# Altium footprint library Pcblib_20110825.Pcblib: 407 footprints (part 18 of 26)
Each footprint in its own frame and in the unit in brackets; x right, y up, seen from the top. Pads: shape width x height; smd on the part's side, far side on the other; paste and mask are expansions set on the pad; w line width, h text height; cw(c..) or ccw(c..) is an arc to the next point about the centre after c.
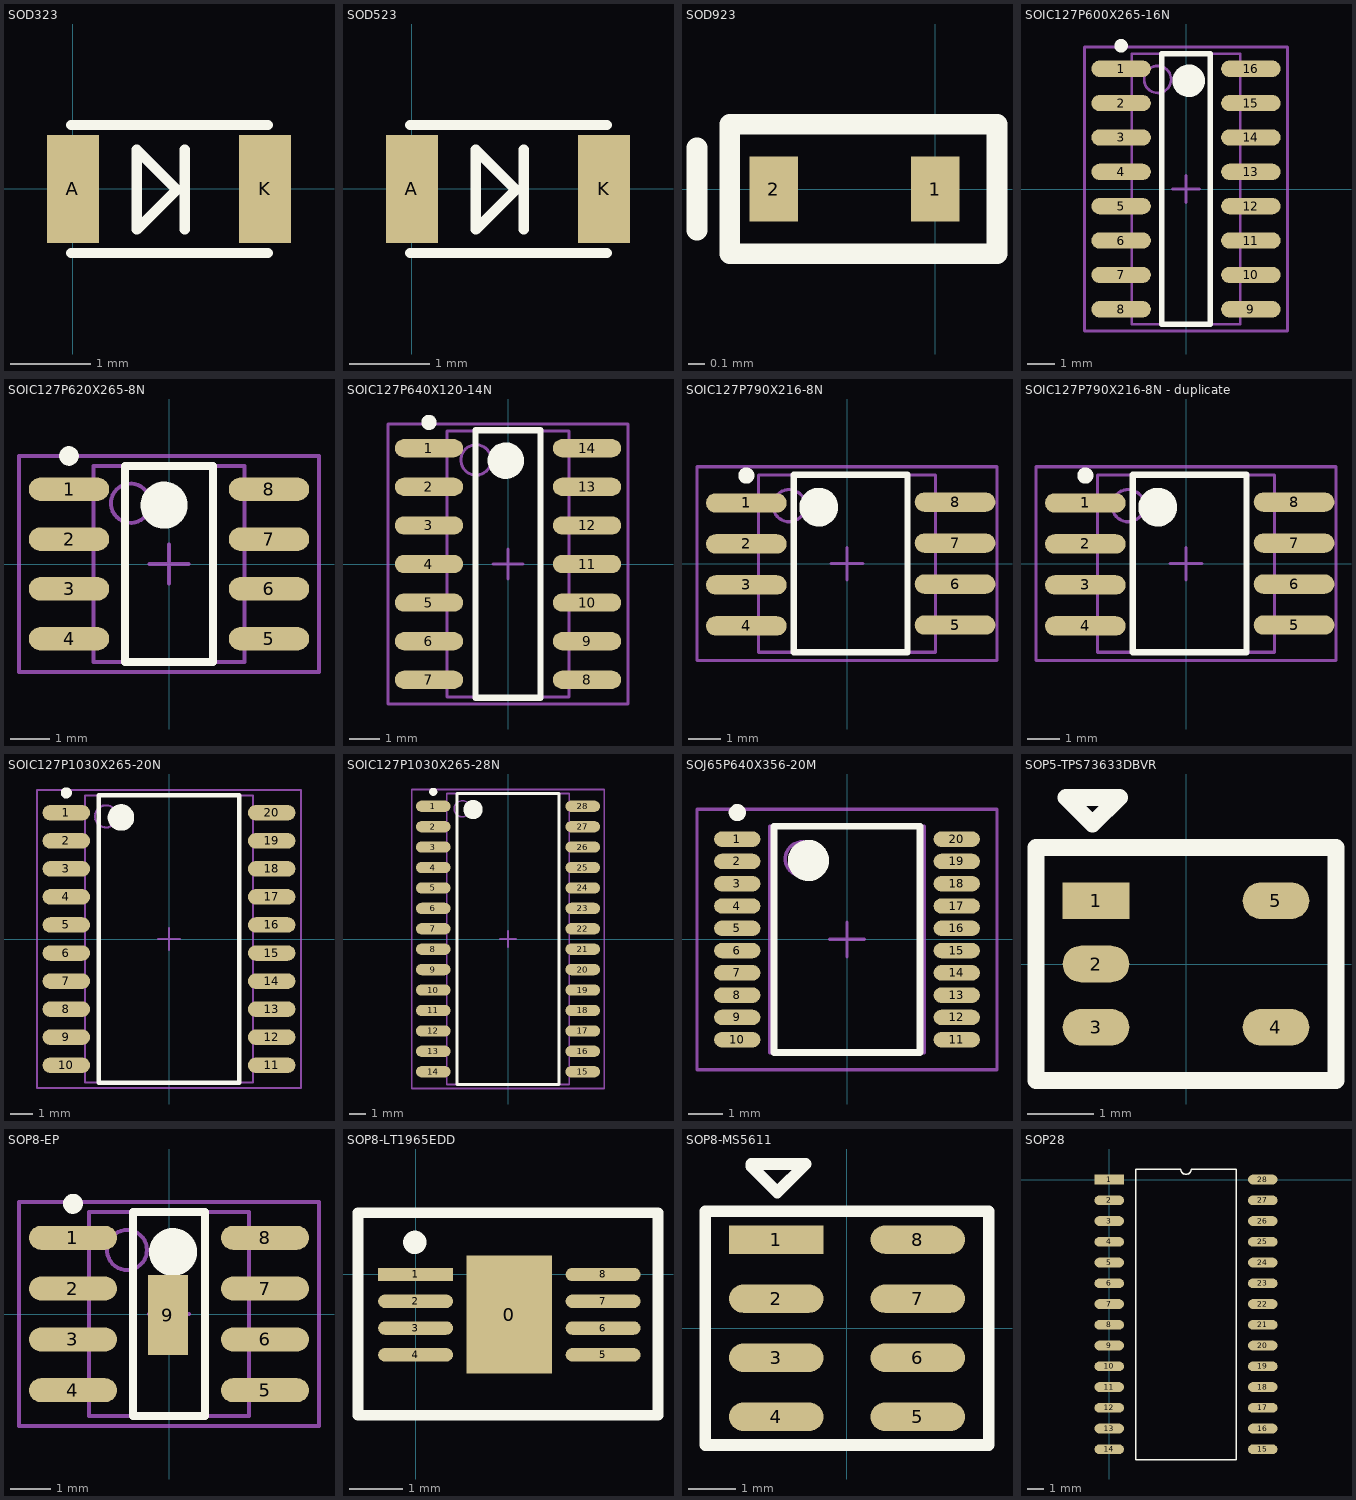
[diagram p17: the footprints below, top view; thin cyan lines are the x and y axes]

## SOD323 [mm]
pads (2):
  rect 0.65x1.35 smd: A(0,0) K(2.4,0)
TopOverlay:
  lines w0.127: -0.025,-0.8 2.438,-0.8 ; -0.025,0.8 2.438,0.8 ; 1.397,-0.508 1.397,0.492 ; 0.797,-0.508 1.297,-0.008 0.797,0.492 0.797,-0.508

## SOD523 [mm]
height 9.6
pads (2):
  rect 0.65x1.35 smd: A(0,0) K(2.4,0)
TopOverlay:
  lines w0.127: -0.025,-0.8 2.438,-0.8 ; -0.025,0.8 2.438,0.8 ; 1.397,-0.508 1.397,0.492 ; 0.797,-0.508 1.297,-0.008 0.797,0.492 0.797,-0.508

## SOD923 [mm]
pads (2):
  rect 0.3x0.4 smd: 1(0,0) 2(-1,0)
TopOverlay:
  lines w0.127: -1.473,-0.254 -1.473,0.254 ; -1.27,-0.4 0.381,-0.4 0.381,0.4 -1.27,0.4 -1.27,-0.4

## SOIC127P600X265-16N [mm] "SOIC, 16-Leads, Body 10.0x4.0mm (max), Pitch 1.27mm, IPC Medium Density"
height 2.65
pads (16):
  oval 2.2x0.6 smd: 1(-2.4,4.445) 2(-2.4,3.175) 3(-2.4,1.905) 4(-2.4,0.635) 5(-2.4,-0.635) 6(-2.4,-1.905) 7(-2.4,-3.175) 8(-2.4,-4.445) 9(2.4,-4.445) 10(2.4,-3.175) 11(2.4,-1.905) 12(2.4,-0.635) 13(2.4,0.635) 14(2.4,1.905) 15(2.4,3.175) 16(2.4,4.445)
TopOverlay:
  circle w0.25: c-2.4,5.295 r0.125
  circle w0.6: c0.1,4 r0.3
  lines w0.2: -0.9,-5 -0.9,5 0.9,5 0.9,-5 -0.9,-5
Mechanical13:
  circle w0.1: c-1.05,4.05 r0.5
  lines w0.1: -2,-5 -2,5 2,5 2,-5 -2,-5
Mechanical15:
  lines w0.1: -0.5,0 0.5,0 ; 0,-0.5 0,0.5 ; -3.75,-5.25 -3.75,5.25 3.75,5.25 3.75,-5.25 -3.75,-5.25
3D body: height 2.65, standoff 0.1, extent -2,-5 2,5

## SOIC127P620X265-8N [mm] "SOIC, 8-Leads, Body 5.0x3.9mm (max), Pitch 1.27mm, IPC Medium Density"
height 2.65
pads (8):
  oval 2.05x0.6 smd: 1(-2.55,1.905) 2(-2.55,0.635) 3(-2.55,-0.635) 4(-2.55,-1.905) 5(2.55,-1.905) 6(2.55,-0.635) 7(2.55,0.635) 8(2.55,1.905)
TopOverlay:
  circle w0.6: c-0.125,1.5 r0.3
  circle w0.25: c-2.55,2.755 r0.125
  lines w0.2: -1.125,-2.5 1.125,-2.5 1.125,2.5 -1.125,2.5 -1.125,-2.5
Mechanical13:
  circle w0.1: c-0.98,1.55 r0.5
  lines w0.1: -1.93,-2.5 1.93,-2.5 1.93,2.5 -1.93,2.5 -1.93,-2.5
Mechanical15:
  lines w0.1: -0.5,0 0.5,0 ; 0,-0.5 0,0.5 ; -3.825,-2.75 3.825,-2.75 3.825,2.75 -3.825,2.75 -3.825,-2.75
3D body: height 2.65, standoff 0.1, extent -1.93,-2.5 1.93,2.5

## SOIC127P640X120-14N [mm] "SOIC, 14-Leads, Body 8.8x4.0mm (max), Pitch 1.27mm, IPC Medium Density"
height 1.2
pads (14):
  oval 2.25x0.6 smd: 1(-2.6,3.81) 2(-2.6,2.54) 3(-2.6,1.27) 4(-2.6,0) 5(-2.6,-1.27) 6(-2.6,-2.54) 7(-2.6,-3.81) 8(2.6,-3.81) 9(2.6,-2.54) 10(2.6,-1.27) 11(2.6,0) 12(2.6,1.27) 13(2.6,2.54) 14(2.6,3.81)
TopOverlay:
  circle w0.25: c-2.6,4.66 r0.125
  circle w0.6: c-0.075,3.4 r0.3
  lines w0.2: -1.075,-4.4 -1.075,4.4 1.075,4.4 1.075,-4.4 -1.075,-4.4
Mechanical13:
  circle w0.1: c-1.05,3.425 r0.5
  lines w0.1: -2,-4.375 -2,4.375 2,4.375 2,-4.375 -2,-4.375
Mechanical15:
  lines w0.1: -0.5,0 0.5,0 ; 0,-0.5 0,0.5 ; -3.95,-4.6 -3.95,4.6 3.95,4.6 3.95,-4.6 -3.95,-4.6
3D body: height 1.2, standoff 0.1, extent -2,-4.375 2,4.375

## SOIC127P790X216-8N [mm] "SOIC, 8-Leads, Body 5.5x5.5mm (max), Pitch 1.27mm, IPC Medium Density"
height 2.16
pads (8):
  oval 2.5x0.6 smd: 1(-3.121,1.88) 2(-3.121,0.61) 3(-3.121,-0.66) 4(-3.121,-1.93) 5(3.35,-1.905) 6(3.35,-0.635) 7(3.35,0.635) 8(3.35,1.905)
TopOverlay:
  circle w0.6: c-0.875,1.75 r0.3
  circle w0.25: c-3.121,2.73 r0.125
  lines w0.2: -1.646,2.725 -1.646,-2.75 1.875,-2.75 1.875,2.75 -1.646,2.75
Mechanical13:
  circle w0.1: c-1.795,1.795 r0.5
  lines w0.1: -2.745,-2.745 2.745,-2.745 2.745,2.745 -2.745,2.745 -2.745,-2.745
Mechanical15:
  lines w0.1: -0.5,0 0.5,0 ; 0,-0.5 0,0.5 ; -4.65,-3 4.65,-3 4.65,3 -4.65,3 -4.65,-3
3D body: height 2.16, standoff 0.1, extent -2.745,-2.745 2.745,2.745

## SOIC127P790X216-8N - duplicate [mm] "SOIC, 8-Leads, Body 5.5x5.5mm (max), Pitch 1.27mm, IPC Medium Density"
height 2.16
pads (8):
  oval 2.5x0.6 smd: 1(-3.121,1.88) 2(-3.121,0.61) 3(-3.121,-0.66) 4(-3.121,-1.93) 5(3.35,-1.905) 6(3.35,-0.635) 7(3.35,0.635) 8(3.35,1.905)
TopOverlay:
  circle w0.25: c-3.121,2.73 r0.125
  circle w0.6: c-0.875,1.75 r0.3
  lines w0.2: -1.646,2.725 -1.646,-2.75 1.875,-2.75 1.875,2.75 -1.646,2.75
Mechanical13:
  circle w0.1: c-1.795,1.795 r0.5
  lines w0.1: -2.745,-2.745 -2.745,2.745 2.745,2.745 2.745,-2.745 -2.745,-2.745
Mechanical15:
  lines w0.1: -0.5,0 0.5,0 ; 0,-0.5 0,0.5 ; -4.65,-3 -4.65,3 4.65,3 4.65,-3 -4.65,-3
3D body: height 2.16, standoff 0.1, extent -2.745,-2.745 2.745,2.745

## SOIC127P1030X265-20N [mm] "SOIC, 20-Leads, Body 13.0x7.6mm (max), Pitch 1.27mm, IPC Medium Density"
height 2.65
pads (20):
  oval 2.15x0.7 smd: 1(-4.65,5.715) 2(-4.65,4.445) 3(-4.65,3.175) 4(-4.65,1.905) 5(-4.65,0.635) 6(-4.65,-0.635) 7(-4.65,-1.905) 8(-4.65,-3.175) 9(-4.65,-4.445) 10(-4.65,-5.715) 11(4.65,-5.715) 12(4.65,-4.445) 13(4.65,-3.175) 14(4.65,-1.905) 15(4.65,-0.635) 16(4.65,0.635) 17(4.65,1.905) 18(4.65,3.175) 19(4.65,4.445) 20(4.65,5.715)
TopOverlay:
  circle w0.25: c-4.65,6.615 r0.125
  circle w0.6: c-2.175,5.5 r0.3
  lines w0.2: -3.175,-6.5 -3.175,6.5 3.175,6.5 3.175,-6.5 -3.175,-6.5
Mechanical13:
  circle w0.1: c-2.85,5.55 r0.5
  lines w0.1: -3.8,-6.5 -3.8,6.5 3.8,6.5 3.8,-6.5 -3.8,-6.5
Mechanical15:
  lines w0.1: -0.5,0 0.5,0 ; 0,-0.5 0,0.5 ; -5.975,-6.75 -5.975,6.75 5.975,6.75 5.975,-6.75 -5.975,-6.75
3D body: height 2.65, standoff 0.1, extent -3.8,-6.5 3.8,6.5

## SOIC127P1030X265-28N [mm] "SOIC, 28-Leads, Body 18.1x7.6mm (max), Pitch 1.27mm, IPC Medium Density"
height 2.65
pads (28):
  oval 2.15x0.7 smd: 1(-4.65,8.255) 2(-4.65,6.985) 3(-4.65,5.715) 4(-4.65,4.445) 5(-4.65,3.175) 6(-4.65,1.905) 7(-4.65,0.635) 8(-4.65,-0.635) 9(-4.65,-1.905) 10(-4.65,-3.175) 11(-4.65,-4.445) 12(-4.65,-5.715) 13(-4.65,-6.985) 14(-4.65,-8.255) 15(4.65,-8.255) 16(4.65,-6.985) 17(4.65,-5.715) 18(4.65,-4.445) 19(4.65,-3.175) 20(4.65,-1.905) 21(4.65,-0.635) 22(4.65,0.635) 23(4.65,1.905) 24(4.65,3.175) 25(4.65,4.445) 26(4.65,5.715) 27(4.65,6.985) 28(4.65,8.255)
TopOverlay:
  circle w0.25: c-4.65,9.155 r0.125
  circle w0.6: c-2.175,8.05 r0.3
  lines w0.2: -3.175,-9.05 -3.175,9.05 3.175,9.05 3.175,-9.05 -3.175,-9.05
Mechanical13:
  circle w0.1: c-2.85,8.1 r0.5
  lines w0.1: -3.8,-9.05 -3.8,9.05 3.8,9.05 3.8,-9.05 -3.8,-9.05
Mechanical15:
  lines w0.1: -0.5,0 0.5,0 ; 0,-0.5 0,0.5 ; -5.975,-9.3 -5.975,9.3 5.975,9.3 5.975,-9.3 -5.975,-9.3
3D body: height 2.65, standoff 0.1, extent -3.8,-9.05 3.8,9.05

## SOJ65P640X356-20M [mm] "SOJ, 20-Leads, Body 6.6x6.4mm (max), Pitch 0.65mm, IPC Low Density"
height 3.56
pads (20):
  oval 1.35x0.45 smd: 1(-3.2,2.925) 2(-3.2,2.275) 3(-3.2,1.625) 4(-3.2,0.975) 5(-3.2,0.325) 6(-3.2,-0.325) 7(-3.2,-0.975) 8(-3.2,-1.625) 9(-3.2,-2.275) 10(-3.2,-2.925) 11(3.2,-2.925) 12(3.2,-2.275) 13(3.2,-1.625) 14(3.2,-0.975) 15(3.2,-0.325) 16(3.2,0.325) 17(3.2,0.975) 18(3.2,1.625) 19(3.2,2.275) 20(3.2,2.925)
TopOverlay:
  circle w0.25: c-3.2,3.7 r0.125
  circle w0.6: c-1.125,2.3 r0.3
  lines w0.2: -2.125,-3.3 -2.125,3.3 2.125,3.3 2.125,-3.3 -2.125,-3.3
Mechanical13:
  circle w0.1: c-1.3,2.35 r0.5
  lines w0.1: -2.25,-3.3 -2.25,3.3 2.25,3.3 2.25,-3.3 -2.25,-3.3
Mechanical15:
  lines w0.1: -0.5,0 0.5,0 ; 0,-0.5 0,0.5 ; -4.375,-3.8 -4.375,3.8 4.375,3.8 4.375,-3.8 -4.375,-3.8
3D body: height 3.56, standoff 0.64, extent -2.25,-3.3 2.25,3.3

## SOP5-TPS73633DBVR [mm]
pads (5):
  rect 1x0.55 smd: 1(-1.35,0.95)
  oval 1x0.55 smd: 2(-1.35,0) 3(-1.35,-0.95) 4(1.35,-0.95) 5(1.35,0.95)
TopOverlay:
  lines w0.254: -2.25,-1.75 -2.25,1.75 2.25,1.75 2.25,-1.75 -2.25,-1.75 ; -1.8,2.5 -1.4,2.1 -1,2.5 -1.8,2.5

## SOP8-EP [mm] "SOIC, 8-Leads, Body 5.1x4.0mm (max), Pitch 1.27mm, IPC Medium Density"
height 2.65
pads (9):
  oval 2.2x0.6 smd: 1(-2.4,1.905) 2(-2.4,0.635) 3(-2.4,-0.635) 4(-2.4,-1.905) 5(2.4,-1.905) 6(2.4,-0.635) 7(2.4,0.635) 8(2.4,1.905)
  rect 1x2 smd: 9(-0.025,-0.025)
TopOverlay:
  circle w0.25: c-2.4,2.755 r0.125
  circle w0.6: c0.1,1.55 r0.3
  lines w0.2: -0.9,-2.55 -0.9,2.55 0.9,2.55 0.9,-2.55 -0.9,-2.55
Mechanical13:
  circle w0.1: c-1.05,1.6 r0.5
  lines w0.1: -2,-2.55 -2,2.55 2,2.55 2,-2.55 -2,-2.55
Mechanical15:
  lines w0.1: -0.5,0 0.5,0 ; 0,-0.5 0,0.5 ; -3.75,-2.8 -3.75,2.8 3.75,2.8 3.75,-2.8 -3.75,-2.8
3D body: height 2.65, standoff 0.1, extent -2,-2.55 2,2.55

## SOP8-LT1965EDD [mm]
pads (9):
  rect 1.6x2.2 smd: 0(1.75,-0.75)
  rect 1.4x0.25 smd: 1(0,0)
  oval 1.4x0.25 smd: 2(0,-0.5) 3(0,-1) 4(0,-1.5) 5(3.5,-1.5) 6(3.5,-1) 7(3.5,-0.5) 8(3.5,0)
TopOverlay:
  circle w0.254: c-0.015,0.6 r0.09
  lines w0.2: -1.075,-2.625 -1.075,1.15 4.525,1.15 4.525,-2.625 -1.075,-2.625

## SOP8-MS5611 [mm]
pads (8):
  rect 2x0.6 smd: 1(-1.5,1.875)
  oval 2x0.6 smd: 2(-1.5,0.625) 3(-1.5,-0.625) 4(-1.5,-1.875) 5(1.5,-1.875) 6(1.5,-0.625) 7(1.5,0.625) 8(1.5,1.875)
TopOverlay:
  lines w0.25: -2.025,3.425 -1.475,2.875 -0.875,3.475 -2.025,3.475 ; -3,-2.475 3,-2.475 3,2.475 -3,2.475 -3,-2.475

## SOP28 [mm]
pads (28):
  rect 1.8x0.6 smd: 1(0,0)
  oval 1.8x0.6 smd: 2(0,-1.27) 3(0,-2.54) 4(0,-3.81) 5(0,-5.08) 6(0,-6.35) 7(0,-7.62) 8(0,-8.89) 9(0,-10.16) 10(0,-11.43) 11(0,-12.7) 12(0,-13.97) 13(0,-15.24) 14(0,-16.51) 15(9.4,-16.51) 16(9.4,-15.24) 17(9.4,-13.97) 18(9.4,-12.7) 19(9.4,-11.43) 20(9.4,-10.16) 21(9.4,-8.89) 22(9.4,-7.62) 23(9.4,-6.35) 24(9.4,-5.08) 25(9.4,-3.81) 26(9.4,-2.54) 27(9.4,-1.27) 28(9.4,0)
TopOverlay:
  lines w0.1: 1.635,-17.145 1.635,0.635 4.382,0.635 ccw(c4.7,0.635) 5.017,0.635 7.765,0.635 7.765,-17.145 1.635,-17.145